# EAGLE library part KEEBDECK_KEYBOARD_6R13C (library KeebDeck_Eagle)
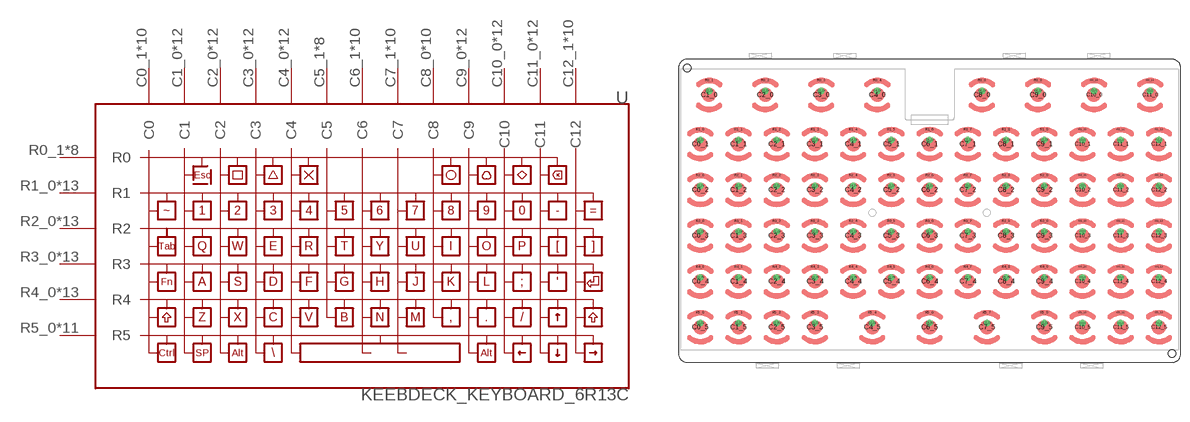
[diagram p0: symbol with the pads of KEEBDECK_KEYBOARD_6R13C; footprint KEEBDECK_KEYBOARD_6R13C]

Designator prefix -

## KEEBDECK_KEYBOARD_6R13C  [KEEBDECK_KEYBOARD_6R13C]
C0_1  C0
C0_1V  C0
C0_2  C0
C0_2V  C0
C0_3  C0
C0_3V  C0
C0_4  C0
C0_4V  C0
C0_5  C0
C0_5V  C0
C1_0  C1
C1_0V  C1
C1_1  C1
C1_1V  C1
C1_2  C1
C1_2V  C1
C1_3  C1
C1_3V  C1
C1_4  C1
C1_4V  C1
C1_5  C1
C1_5V  C1
C2_0  C2
C2_0V  C2
C2_1  C2
C2_1V  C2
C2_2  C2
C2_2V  C2
C2_3  C2
C2_3V  C2
C2_4  C2
C2_4V  C2
C2_5  C2
C2_5V  C2
C3_0  C3
C3_0V  C3
C3_1  C3
C3_1V  C3
C3_2  C3
C3_2V  C3
C3_3  C3
C3_3V  C3
C3_4  C3
C3_4V  C3
C3_5  C3
C3_5V  C3
C4_0  C4
C4_0V  C4
C4_1  C4
C4_1V  C4
C4_2  C4
C4_2V  C4
C4_3  C4
C4_3V  C4
C4_4  C4
C4_4V  C4
C4_5  C4
C4_5V  C4
C5_1  C5
C5_1V  C5
C5_2  C5
C5_2V  C5
C5_3  C5
C5_3V  C5
C5_4  C5
C5_4V  C5
C6_1  C6
C6_1V  C6
C6_2  C6
C6_2V  C6
C6_3  C6
C6_3V  C6
C6_4  C6
C6_4V  C6
C6_5  C6
C6_5V  C6
C7_1  C7
C7_1V  C7
C7_2  C7
C7_2V  C7
C7_3  C7
C7_3V  C7
C7_4  C7
C7_4V  C7
C7_5  C7
C7_5V  C7
C8_0  C8
C8_0V  C8
C8_1  C8
C8_1V  C8
C8_2  C8
C8_2V  C8
C8_3  C8
C8_3V  C8
C8_4  C8
C8_4V  C8
C9_0  C9
C9_0V  C9
C9_1  C9
C9_1V  C9
C9_2  C9
C9_2V  C9
C9_3  C9
C9_3V  C9
C9_4  C9
C9_4V  C9
C9_5  C9
C9_5V  C9
C10_0  C10
C10_0V  C10
C10_1  C10
C10_1V  C10
C10_2  C10
C10_2V  C10
C10_3  C10
C10_3V  C10
C10_4  C10
C10_4V  C10
C10_5  C10
C10_5V  C10
C11_0  C11
C11_0V  C11
C11_1  C11
C11_1V  C11
C11_2  C11
C11_2V  C11
C11_3  C11
C11_3V  C11
C11_4  C11
C11_4V  C11
C11_5  C11
C11_5V  C11
C12_1  C12
C12_1V  C12
C12_2  C12
C12_2V  C12
C12_3  C12
C12_3V  C12
C12_4  C12
C12_4V  C12
C12_5  C12
C12_5V  C12
R0_1  R0
R0_2  R0
R0_3  R0
R0_4  R0
R0_8  R0
R0_9  R0
R0_10  R0
R0_11  R0
R1_0  R1
R1_1  R1
R1_2  R1
R1_3  R1
R1_4  R1
R1_5  R1
R1_6  R1
R1_7  R1
R1_8  R1
R1_9  R1
R1_10  R1
R1_11  R1
R1_12  R1
R2_0  R2
R2_1  R2
R2_2  R2
R2_3  R2
R2_4  R2
R2_5  R2
R2_6  R2
R2_7  R2
R2_8  R2
R2_9  R2
R2_10  R2
R2_11  R2
R2_12  R2
R3_0  R3
R3_1  R3
R3_2  R3
R3_3  R3
R3_4  R3
R3_5  R3
R3_6  R3
R3_7  R3
R3_8  R3
R3_9  R3
R3_10  R3
R3_11  R3
R3_12  R3
R4_0  R4
R4_1  R4
R4_2  R4
R4_3  R4
R4_4  R4
R4_5  R4
R4_6  R4
R4_7  R4
R4_8  R4
R4_9  R4
R4_10  R4
R4_11  R4
R4_12  R4
R5_0  R5
R5_1  R5
R5_2  R5
R5_3  R5
R5_4  R5
R5_6  R5
R5_7  R5
R5_9  R5
R5_10  R5
R5_11  R5
R5_12  R5

## Footprint KEEBDECK_KEYBOARD_6R13C (pad centres in mm)
smd 2.5 x 2.5: C0_1 -39.6,11.85; C0_2 -39.6,3.95; C0_3 -39.6,-3.95; C0_4 -39.6,-11.85; C0_5 -39.6,-19.75; C1_0 -38.06,20.34; C1_1 -33,11.85; C1_2 -33,3.95; C1_3 -33,-3.95; C1_4 -33,-11.85; C1_5 -33,-19.75; C2_0 -28.385,20.34; C2_1 -26.4,11.85; C2_2 -26.4,3.95; C2_3 -26.4,-3.95; C2_4 -26.4,-11.85; C2_5 -26.4,-19.75; C3_0 -18.71,20.34; C3_1 -19.8,11.85; C3_2 -19.8,3.95; C3_3 -19.8,-3.95; C3_4 -19.8,-11.85; C3_5 -19.8,-19.75; C4_0 -9.035,20.34; C4_1 -13.2,11.85; C4_2 -13.2,3.95; C4_3 -13.2,-3.95; C4_4 -13.2,-11.85; C4_5 -9.9,-19.75; C5_1 -6.6,11.85; C5_2 -6.6,3.95; C5_3 -6.6,-3.95; C5_4 -6.6,-11.85; C6_1 0,11.85; C6_2 0,3.95; C6_3 0,-3.95; C6_4 0,-11.85; C6_5 0,-19.75; C7_1 6.6,11.85; C7_2 6.6,3.95; C7_3 6.6,-3.95; C7_4 6.6,-11.85; C7_5 9.9,-19.75; C8_0 9.04,20.34; C8_1 13.2,11.85; C8_2 13.2,3.95; C8_3 13.2,-3.95; C8_4 13.2,-11.85; C9_0 18.715,20.34; C9_1 19.8,11.85; C9_2 19.8,3.95; C9_3 19.8,-3.95; C9_4 19.8,-11.85; C9_5 19.8,-19.75; C10_0 28.39,20.34; C10_1 26.4,11.85; C10_2 26.4,3.95; C10_3 26.4,-3.95; C10_4 26.4,-11.85; C10_5 26.4,-19.75; C11_0 38.065,20.34; C11_1 33,11.85; C11_2 33,3.95; C11_3 33,-3.95; C11_4 33,-11.85; C11_5 33,-19.75; C12_1 39.6,11.85; C12_2 39.6,3.95; C12_3 39.6,-3.95; C12_4 39.6,-11.85; C12_5 39.6,-19.75
drill 0.6 pad 1: C0_1V -39.6,12.55; C0_2V -39.6,4.65; C0_3V -39.6,-3.25; C0_4V -39.6,-11.15; C0_5V -39.6,-19.05; C1_0V -38.06,21.04; C1_1V -33,12.55; C1_2V -33,4.65; C1_3V -33,-3.25; C1_4V -33,-11.15; C1_5V -33,-19.05; C2_0V -28.385,21.04; C2_1V -26.4,12.55; C2_2V -26.4,4.65; C2_3V -26.4,-3.25; C2_4V -26.4,-11.15; C2_5V -26.4,-19.05; C3_0V -18.71,21.04; C3_1V -19.8,12.55; C3_2V -19.8,4.65; C3_3V -19.8,-3.25; C3_4V -19.8,-11.15; C3_5V -19.8,-19.05; C4_0V -9.035,21.04; C4_1V -13.2,12.55; C4_2V -13.2,4.65; C4_3V -13.2,-3.25; C4_4V -13.2,-11.15; C4_5V -9.9,-19.05; C5_1V -6.6,12.55; C5_2V -6.6,4.65; C5_3V -6.6,-3.25; C5_4V -6.6,-11.15; C6_1V 0,12.55; C6_2V 0,4.65; C6_3V 0,-3.25; C6_4V 0,-11.15; C6_5V 0,-19.05; C7_1V 6.6,12.55; C7_2V 6.6,4.65; C7_3V 6.6,-3.25; C7_4V 6.6,-11.15; C7_5V 9.9,-19.05; C8_0V 9.04,21.04; C8_1V 13.2,12.55; C8_2V 13.2,4.65; C8_3V 13.2,-3.25; C8_4V 13.2,-11.15; C9_0V 18.715,21.04; C9_1V 19.8,12.55; C9_2V 19.8,4.65; C9_3V 19.8,-3.25; C9_4V 19.8,-11.15; C9_5V 19.8,-19.05; C10_0V 28.39,21.04; C10_1V 26.4,12.55; C10_2V 26.4,4.65; C10_3V 26.4,-3.25; C10_4V 26.4,-11.15; C10_5V 26.4,-19.05; C11_0V 38.065,21.04; C11_1V 33,12.55; C11_2V 33,4.65; C11_3V 33,-3.25; C11_4V 33,-11.15; C11_5V 33,-19.05; C12_1V 39.6,12.55; C12_2V 39.6,4.65; C12_3V 39.6,-3.25; C12_4V 39.6,-11.15; C12_5V 39.6,-19.05
smd 1.27 x 0.635: R0_1 -38.075,22.83; R0_2 -28.4,22.83; R0_3 -18.725,22.83; R0_4 -9.05,22.83; R0_8 9.025,22.83; R0_9 18.7,22.83; R0_10 28.375,22.83; R0_11 38.05,22.83; R1_0 -39.615,14.34; R1_1 -33.015,14.34; R1_2 -26.415,14.34; R1_3 -19.815,14.34; R1_4 -13.215,14.34; R1_5 -6.615,14.34; R1_6 -0.015,14.34; R1_7 6.585,14.34; R1_8 13.185,14.34; R1_9 19.785,14.34; R1_10 26.385,14.34; R1_11 32.985,14.34; R1_12 39.585,14.34; R2_0 -39.615,6.44; R2_1 -33.015,6.44; R2_2 -26.415,6.44; R2_3 -19.815,6.44; R2_4 -13.215,6.44; R2_5 -6.615,6.44; R2_6 -0.015,6.44; R2_7 6.585,6.44; R2_8 13.185,6.44; R2_9 19.785,6.44; R2_10 26.385,6.44; R2_11 32.985,6.44; R2_12 39.585,6.44; R3_0 -39.615,-1.46; R3_1 -33.015,-1.46; R3_2 -26.415,-1.46; R3_3 -19.815,-1.46; R3_4 -13.215,-1.46; R3_5 -6.615,-1.46; R3_6 -0.015,-1.46; R3_7 6.585,-1.46; R3_8 13.185,-1.46; R3_9 19.785,-1.46; R3_10 26.385,-1.46; R3_11 32.985,-1.46; R3_12 39.585,-1.46; R4_0 -39.615,-9.36; R4_1 -33.015,-9.36; R4_2 -26.415,-9.36; R4_3 -19.815,-9.36; R4_4 -13.215,-9.36; R4_5 -6.615,-9.36; R4_6 -0.015,-9.36; R4_7 6.585,-9.36; R4_8 13.185,-9.36; R4_9 19.785,-9.36; R4_10 26.385,-9.36; R4_11 32.985,-9.36; R4_12 39.585,-9.36; R5_0 -39.615,-17.26; R5_1 -33.015,-17.26; R5_2 -26.415,-17.26; R5_3 -19.815,-17.26; R5_4 -9.915,-17.26; R5_6 -0.015,-17.26; R5_7 9.885,-17.26; R5_9 19.785,-17.26; R5_10 26.385,-17.26; R5_11 32.985,-17.26; R5_12 39.585,-17.26